# EAGLE library part LMR14203 (library TI)
LMR14203 SIMPLE SWITCHER® 4.5-42Vin, 0.3A Step-Down Voltage Regulator in SOT-23 Datasheet: http://www.ti.com/lit/ds/symlink/lmr14203.pdf Website: http://www.ti.com/product/lmr14203
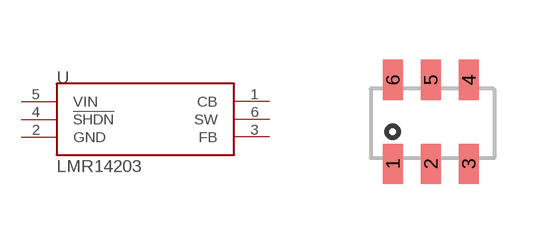
[diagram p1: symbol with the pads of SOT-6_DDC; footprint SOT-6_DDC]

Designator prefix -

## LMR14203  [SOT-6_DDC]
1  CB  in
2  GND  pwr
3  FB  in
4  !SHDN  in
5  VIN  pwr
6  SW  out

## Footprint SOT-6_DDC (pad centres in mm)
SOT (Small Outline Transistor), 6 pins Based off TI DDC (R-PDSO-G6) package: http://www.ti.com/lit/ml/mpds124d/mpds124d.pdf
smd 0.5 x 1: 1 -0.95,-1.05; 2 0,-1.05; 3 0.95,-1.05; 4 0.95,1.05; 5 0,1.05; 6 -0.95,1.05